# Altium footprint library CH340.PcbLib: 20 footprints (part 1 of 2)
Each footprint in its own frame and in the unit in brackets; x right, y up, seen from the top. Pads: shape width x height; smd on the part's side, far side on the other; paste and mask are expansions set on the pad; w line width, h text height; cw(c..) or ccw(c..) is an arc to the next point about the centre after c.
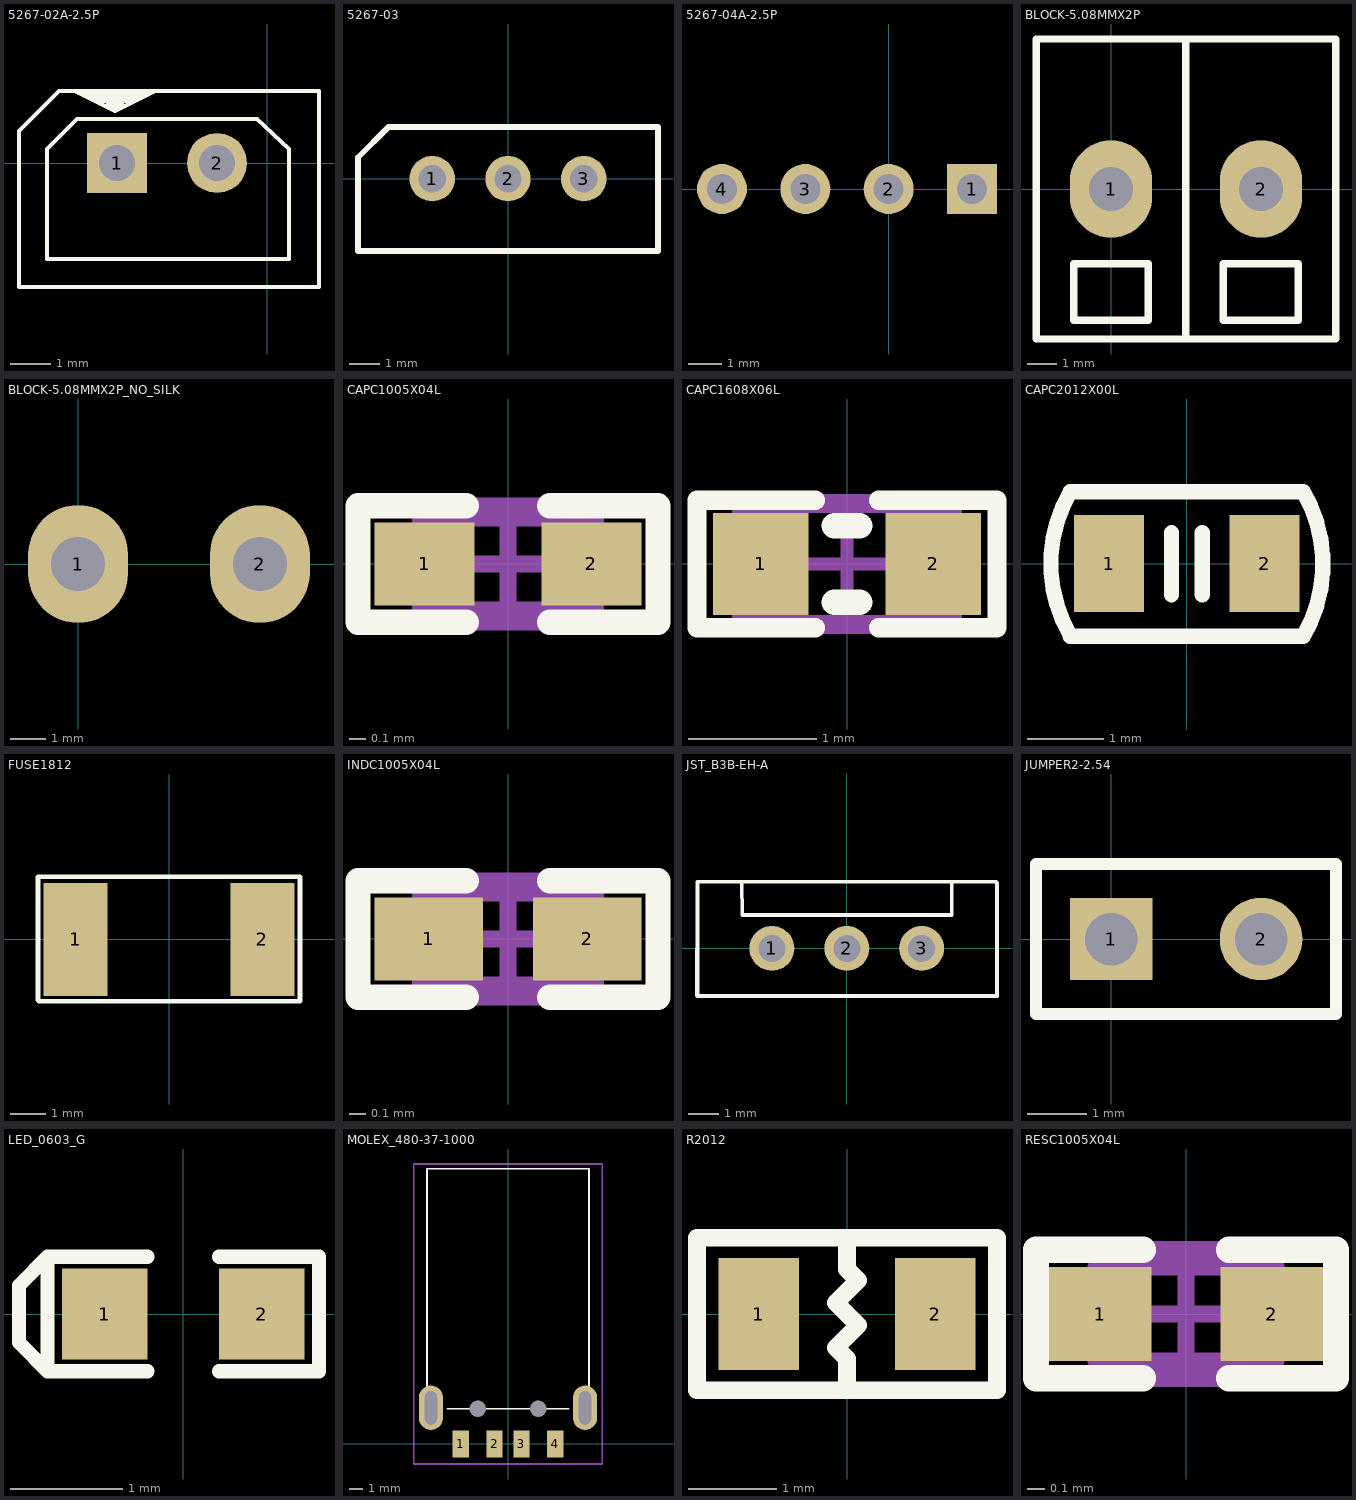
[diagram p0: the footprints below, top view; thin cyan lines are the x and y axes]

## 5267-02A-2.5P [mm]
pads (2):
  rect 1.5x1.5 / inner round 1.5 / far side rect 1.5x1.5 hole 0.9: 1(-3.75,0)
  round 1.5 hole 0.9: 2(-1.25,0)
Top Overlay:
  lines w0.1: -4.55,1.7 -3.05,1.7 ; -4,1.45 -3.6,1.45 ; -3.9,1.4 -3.7,1.4 ; -3.8,1.3 -4.3,1.55 -3.3,1.55 -3.8,1.3 ; -3.8,1.3 -4.5,1.65 -3.1,1.65 -3.8,1.3 ; -3.8,1.3 -4.8,1.8 -2.8,1.8 -3.8,1.3 ; -6.2,-3.1 -6.2,0.8 -5.2,1.8 1.3,1.8 1.3,-3.1 -6.2,-3.1 ; -5.5,-2.4 0.55,-2.4 0.55,0.35 -0.25,1.1 -4.75,1.1 -5.5,0.35 -5.5,-2.4
Bottom Overlay:
  lines w0.3: -5,-1.25 -2.5,-1.25 -2.5,1.25 -5,1.25 -5,-1.25 ; -1.25,-1.25 cw(c-1.25,0) -1.25,1.25 cw(c-1.25,0) -1.25,-1.25
3D body "099990986.stp": height 5.95, standoff -3.45, extent -6.15,-3.025 1.25,1.875

## 5267-03 [mm]
pads (3):
  round 1.5 hole 0.9: 1(-2.5,0) 2(0,0) 3(2.5,0)
Top Overlay:
  lines w0.2: -4.95,-2.38 4.95,-2.38 4.95,0 4.95,1.7 -3.95,1.7 -4.95,0.7 -4.95,0 -4.95,-2.38
3D body "022035035.stp": height 5.95, standoff -3.45, extent -4.975,-3.145 4.925,1.755

## 5267-04A-2.5P [mm]
pads (4):
  rect 1.5x1.5 / inner round 1.5 / far side rect 1.5x1.5 hole 0.9: 1(2.5,0)
  round 1.5 hole 0.9: 2(0,0) 3(-2.5,0) 4(-5,0)

## BLOCK-5.08MMX2P [mil]
pads (2):
  oval 110x130 hole 59.06: 1(0,0) 2(200,0)
Top Overlay:
  lines w10: 100,-200 100,200 ; -100,-200 -100,0 -100,200 300,200 300,-200 -100,-200 ; -50,-175 50,-175 50,-100 -50,-100 -50,-175 ; 150,-175 250,-175 250,-100 150,-100 150,-175
3D body "Bornera doble.STEP": height 566.93, standoff -137.8, extent -107.28,-196.85 308.07,204.72

## BLOCK-5.08MMX2P_NO_SILK [mil]
pads (2):
  oval 110x130 hole 59.06: 1(0,0) 2(200,0)
3D body "Bornera doble.STEP": height 566.93, standoff -137.8, extent -107.28,-196.85 308.07,204.72

## CAPC1005X04L [mm]
pads (2):
  rect 0.6x0.5 smd: 1(-0.5,0) 2(0.5,0)
Top Overlay:
  lines w0.152: -0.25,-0.35 -0.9,-0.35 -0.9,0.35 -0.25,0.35 ; 0.25,-0.35 0.9,-0.35 0.9,0.35 0.25,0.35
Mechanical 13:
  lines w0.1: -0.525,-0.275 0.525,-0.275 0.525,0.275 -0.525,0.275 -0.525,-0.275
Mechanical 15:
  lines w0.1: -0.275,0 0.275,0 ; 0,-0.275 0,0.275 ; -0.9,-0.35 -0.9,0.35 0.9,0.35 0.9,-0.35 -0.9,-0.35
3D body "User Library-0402(1005M) Cap.step": height 0.5, standoff -0.01, extent -0.508,-0.254 0.508,0.254

## CAPC1608X06L [mm]
pads (2):
  rect 0.75x0.8 smd: 1(-0.675,0) 2(0.675,0)
Top Overlay:
  lines w0.152: -0.25,-0.5 -1.175,-0.5 -1.175,0.5 -0.25,0.5 ; 0.25,-0.5 1.175,-0.5 1.175,0.5 0.25,0.5
  lines w0.2: -0.1,-0.3 0.1,-0.3 ; -0.1,0.3 0.1,0.3
Mechanical 13:
  lines w0.1: -0.85,-0.45 0.85,-0.45 0.85,0.45 -0.85,0.45 -0.85,-0.45
Mechanical 15:
  lines w0.1: -0.45,0 0.45,0 ; 0,-0.45 0,0.45 ; -1.175,-0.5 -1.175,0.5 1.175,0.5 1.175,-0.5 -1.175,-0.5
3D body "User Library-Chip Capacitor 0603.step": height 0.8, standoff 0, extent -0.8,-0.43 0.8,0.43

## CAPC2012X00L [mil]
height 3.94
pads (2):
  rect 36x50 smd: 1(-40,0) 2(40,0)
Top Overlay:
  lines w7.87: -60,-37.4 60,-37.4 ccw(c-3.8,-0.2) 60,37 -60,37 ccw(c3.4,0) -60,-37 ; -7.94,-16 -7.94,16 ; 7.94,-16 7.94,16
3D body "C2012.STEP": height 48.23, standoff -0.98, extent -39.36,-24.6 39.38,24.61

## FUSE1812 [mm] "PTC 1812"
pads (2):
  rect 1.78x3.15 smd: 1(-2.605,0) 2(2.605,0)
Top Overlay:
  lines w0.127: -3.65,-1.7 -3.65,1.75 3.65,1.75 3.65,-1.725 -3.625,-1.725 -3.65,-1.7
3D body: height 1, standoff 0, extent -2.261,-1.524 2.311,1.524

## INDC1005X04L [mm]
pads (2):
  rect 0.65x0.5 smd: 1(-0.475,0) 2(0.475,0)
Top Overlay:
  lines w0.152: -0.25,-0.35 -0.9,-0.35 -0.9,0.35 -0.25,0.35 ; 0.25,-0.35 0.9,-0.35 0.9,0.35 0.25,0.35
Mechanical 13:
  lines w0.1: -0.525,-0.275 0.525,-0.275 0.525,0.275 -0.525,0.275 -0.525,-0.275
Mechanical 15:
  lines w0.1: -0.275,0 0.275,0 ; 0,-0.275 0,0.275 ; -0.9,-0.35 0.9,-0.35 0.9,0.35 -0.9,0.35 -0.9,-0.35
3D body "User Library-Chip Inductor 0402.step": height 0.5, standoff 0, extent -0.5,-0.3 0.5,0.3

## JST_B3B-EH-A [mm] "2.5mm pitch"
pads (3):
  round 1.5 hole 0.9: 1(-2.5,0) 2(0,0) 3(2.5,0)
Top Overlay:
  lines w0.127: -5,0 -5,-1.575 -4.975,-1.6 -2.5,-1.6 ; -3.505,2.214 -3.493,1.112 2.488,1.112 3.5,1.112 3.5,2.2 ; 5.013,-1.587 -4.987,-1.587 -4.987,2.223 4.98,2.223 5.013,2.19 5.013,-1.587 ; 5.013,-1.587 -1.187,-1.587 5.013,-1.587
3D body "B3B-EH-A.STEP": height 6, standoff -3.2, extent -4.987,-1.599 5.013,2.201

## JUMPER2-2.54 [mil]
pads (2):
  rect 55x55 hole 35 mask+2.5: 1(0,0)
  round 55 hole 35 mask+2.5: 2(100,0)
Top Overlay:
  lines w8: -50,-50 -50,50 150,50 150,-50 -50,-50

## LED_0603_G [mil]
pads (2):
  rect 30x32 smd: 1(-27.5,0) 2(27.5,0)
Top Overlay:
  lines w5: -12.5,-20 -47.5,-20 ; -12.5,20 -47.5,20 ; 12.5,-20 47.5,-20 47.5,20 12.5,20 ; -47.5,-20 -47.5,20 ; -47.5,-20 -57.5,-10 -57.5,10 -47.5,20
3D body "User Library-led_0603_green.step": height 23.62, standoff 0, extent -31.63,-15.75 32.15,15.75

## MOLEX_480-37-1000 [mm]
pads (8):
  rect 1.2x2 smd: 1(-3.5,0) 2(-1,0) 3(1,0) 4(3.5,0)
  oval 1.8x3.3 hole 0.9 slot 2.5 at 90 deg: ""(-5.715,2.667) ""(5.715,2.667)
  round 1.1 hole 1.2 unplated: ""(-2.25,2.6) ""(2.25,2.6)
Top Overlay:
  lines w0.127: -6,4.25 -6,20.4 6,20.4 6,4.25 ; -4.5,2.6 4.5,2.6
Bottom Overlay:
  circle w0: c-5,-0.75 r0.254
Mechanical 1:
  lines w0.01: -6.2,1.85 ccw(c-5.7,1.85) -5.7,1.35 ccw(c-5.7,1.85) -5.2,1.85 -5.2,3.35 ccw(c-5.7,3.35) -5.7,3.85 ccw(c-5.7,3.35) -6.2,3.35 -6.2,1.85 ; 5.2,1.85 ccw(c5.7,1.85) 5.7,1.35 ccw(c5.7,1.85) 6.2,1.85 6.2,3.35 ccw(c5.7,3.35) 5.7,3.85 ccw(c5.7,3.35) 5.2,3.35 5.2,1.85
Mechanical 16:
  lines w0.127: -7,-1.5 7,-1.5 7,20.75 -7,20.75 -7,-1.5
3D body: height 4.55, standoff 0, extent -5.975,1.9 6.025,20.7

## R2012 [mm]
pads (2):
  rect 0.914x1.27 smd: 1(-1,0) 2(1,0)
Top Overlay:
  lines w0.2: 0,-0.864 0,-0.508 -0.127,-0.381 0.127,-0.127 -0.127,0.127 0.127,0.381 0,0.508 0,0.864 ; -1.702,-0.864 1.702,-0.864 1.702,0.864 -1.702,0.864 -1.702,-0.864
3D body "R2012.STEP": height 0.59, standoff -0.01, extent -1,-0.625 1,0.625

## RESC1005X04L [mm]
pads (2):
  rect 0.6x0.55 smd: 1(-0.5,0) 2(0.5,0)
Top Overlay:
  lines w0.152: -0.25,-0.375 -0.875,-0.375 -0.875,0.375 -0.25,0.375 ; 0.25,-0.375 0.875,-0.375 0.875,0.375 0.25,0.375
Mechanical 13:
  lines w0.1: -0.525,-0.275 -0.525,0.275 0.525,0.275 0.525,-0.275 -0.525,-0.275
Mechanical 15:
  lines w0.1: -0.275,0 0.275,0 ; 0,-0.275 0,0.275 ; -0.875,-0.375 0.875,-0.375 0.875,0.375 -0.875,0.375 -0.875,-0.375
3D body "User Library-res0402-1.step": height 0.3, standoff 0, extent -0.5,-0.25 0.5,0.25